# EAGLE library part 2X4_SMD (library myFab)
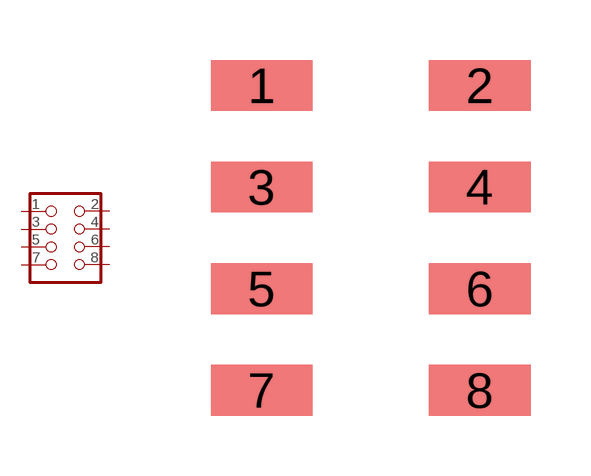
[diagram p7: symbol with the pads of 2X4_SMD; footprint 2X4_SMD]

Designator prefix -

## 2X4_SMD  [2X4_SMD]
1  1  pas
2  2  pas
3  3  pas
4  4  pas
5  5  pas
6  6  pas
7  7  pas
8  8  pas

## Footprint 2X4_SMD (pad centres in mm)
smd 2.54 x 1.27: 1 -2.731,7.62; 2 2.731,7.62; 3 -2.731,5.08; 4 2.731,5.08; 5 -2.731,2.54; 6 2.731,2.54; 7 -2.731,0; 8 2.731,0